# Altium footprint library DIODE.PcbLib: 4 footprints
Each footprint in its own frame and in the unit in brackets; x right, y up, seen from the top. Pads: shape width x height; smd on the part's side, far side on the other; paste and mask are expansions set on the pad; w line width, h text height; cw(c..) or ccw(c..) is an arc to the next point about the centre after c.
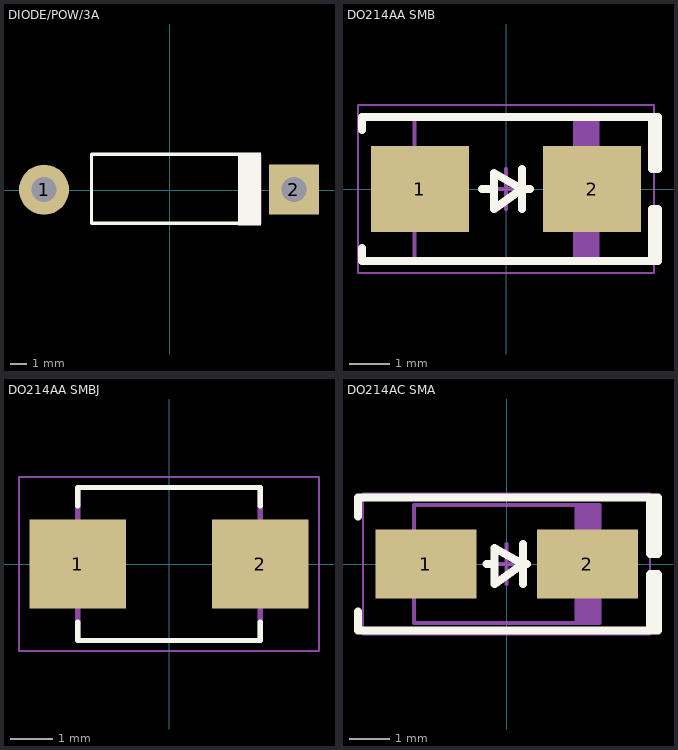
[diagram p0: the footprints below, top view; thin cyan lines are the x and y axes]

## DIODE/POW/3A [mil]
pads (2):
  round 120 hole 60: 1(-301,1)
  rect 120x120 hole 60: 2(298,1)
Top Overlay:
  rectangle: 164,-85 219,90
  lines w7.87: 192.57,85.5 -187.43,85.5 -187.43,-79.5 197.57,-79.5 ; 194,85 214,65 ; 199,-80 214,-65
Mechanical 15:
  lines w2.01: -186,-80 220,-80 220,85 194,85 -186,85 -186,-80
Mechanical 29:
  text "'.Designator'" at -220,-5.01 h60
3D body "User Library-BYW98.step": height 248.03, standoff -92.52, extent -320.86,-104.32 320.87,104.34

## DO214AA SMB [mm] "Molded Diode, 2-Leads, Body 4.31x3.62mm, IPC Medium Density"
height 2.44
pads (2):
  rect 2.45x2.15 smd: 1(-2.15,0) 2(2.15,0)
Top Overlay:
  lines w0.2: -3.6,-1.475 -3.6,-1.8 3.8,-1.8 3.8,-0.5 3.65,-0.5 3.65,-1.8 ; -3.6,1.475 -3.6,1.8 3.8,1.8 3.8,0.5 3.65,0.5 3.65,1.8 ; -0.6,0 -0.3,0 ; 0.4,-0.5 0.4,0.5 ; 0.6,0 0.4,0 ; 0.4,0 -0.3,0.4 -0.3,-0.5 0.4,0
Mechanical 15:
  rectangle: 1.67,-1.8 2.285,1.8
  lines w0.1: -2.285,-1.8 2.285,-1.8 2.285,1.8 -2.285,1.8 -2.285,-1.8
Mechanical 29:
  lines w0.05: -3.7,-2.1 3.7,-2.1 3.7,2.1 -3.7,2.1 -3.7,-2.1
  lines w0.1: -0.5,0 0.5,0 ; 0,-0.5 0,0.5
  text "'.Designator'" at -4.445,-0.635 h1.52
3D body "SMB.STEP": height 2.4, standoff 0, extent -2.6,-1.799 2.6,1.8

## DO214AA SMBJ [mm]
height 2.65
pads (2):
  rect 2.28x2.12 smd: 1(-2.165,0) 2(2.165,0)
Top Overlay:
  lines w0.127: -2.163,-1.38 -2.163,-1.813 2.163,-1.813 2.163,-1.38 ; -2.163,1.38 -2.163,1.813 2.163,1.813 2.163,1.38
Mechanical 13:
  lines w0.127: -2.163,-1.813 2.163,-1.813 2.163,1.813 -2.163,1.813 -2.163,-1.813
Mechanical 15:
  lines w0.05: -3.555,-2.063 3.555,-2.063 3.555,2.063 -3.555,2.063 -3.555,-2.063
3D body "step_temp.STEP": height 2.65, standoff 0, extent -2.67,-1.813 2.67,1.813

## DO214AC SMA [mm] "Molded Diode, 2-Leads, Body 4.30x2.60mm, IPC Medium Density"
height 2.4
pads (2):
  rect 2.5x1.7 smd: 1(-2,0) 2(2,0)
Top Overlay:
  lines w0.2: -3.683,-1.175 -3.683,-1.651 3.75,-1.651 3.75,-0.254 3.556,-0.254 3.556,-1.651 ; -3.683,1.175 -3.683,1.651 3.75,1.651 3.75,0.254 3.556,0.254 3.556,1.651 ; -0.5,0 -0.3,0 ; 0.4,-0.5 0.4,0.5 ; 0.5,0 0.4,0 ; 0.4,0 -0.3,-0.5 -0.3,0.4 0.4,0
Mechanical 13:
  rectangle: 1.681,-1.46 2.3,1.46
  lines w0.1: -2.3,-1.46 2.3,-1.46 2.3,1.46 -2.3,1.46 -2.3,-1.46
Mechanical 15:
  lines w0.05: -3.556,-1.75 3.556,-1.75 3.556,1.75 -3.556,1.75 -3.556,-1.75
  lines w0.1: -0.5,0 0.5,0 ; 0,-0.5 0,0.5
Mechanical 29:
  text "'.Designator'" at -3.175,-0.508 h1.52
3D body "SMA.STEP": height 2.4, standoff 0, extent -2.6,-1.375 2.6,1.375